# EAGLE library part CART_CIRO (library msx-con)
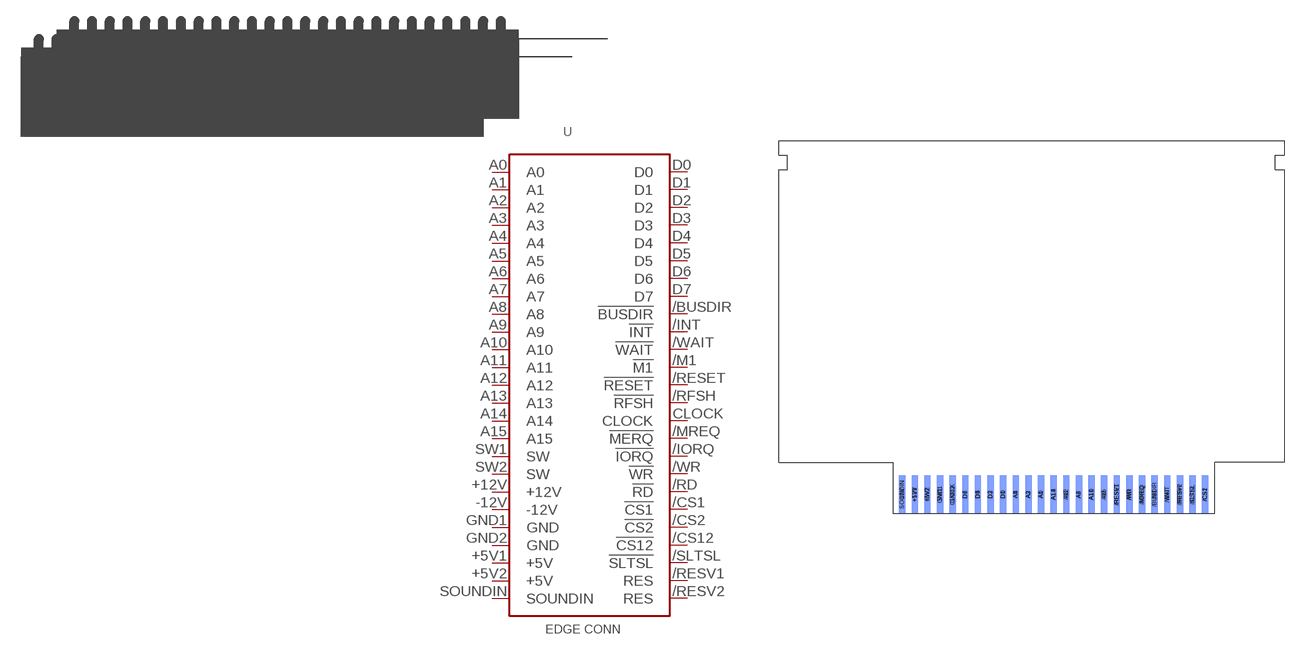
[diagram p3: symbol with the pads of CART-CIRO; footprint CART-CIRO]

Designator prefix -

## CART_CIRO  [CART-CIRO]
+5V1  +5V  sup
+5V2  +5V  sup
+12V  +12V  sup
-12V  -12V  sup
/BUSDIR  !BUSDIR  in
/CS1  !CS1  out
/CS2  !CS2  out
/CS12  !CS12  out
/INT  !INT  oc
/IORQ  !IORQ  out
/M1  !M1  out
/MREQ  !MERQ  out
/RD  !RD  out
/RESET  !RESET  out
/RESV1  RES  nc
/RESV2  RES  nc
/RFSH  !RFSH  out
/SLTSL  !SLTSL  out
/WAIT  !WAIT  oc
/WR  !WR  out
A0  A0  out
A1  A1  out
A2  A2  out
A3  A3  out
A4  A4  out
A5  A5  out
A6  A6  out
A7  A7  out
A8  A8  out
A9  A9  out
A10  A10  out
A11  A11  out
A12  A12  out
A13  A13  out
A14  A14  out
A15  A15  out
CLOCK  CLOCK  out
D0  D0
D1  D1
D2  D2
D3  D3
D4  D4
D5  D5
D6  D6
D7  D7
GND1  GND  sup
GND2  GND  sup
SOUNDIN  SOUNDIN  pas
SW1  SW  pas
SW2  SW  pas

## Footprint CART-CIRO (pad centres in mm)
smd 1.27 x 7.62 bottom: +5V1 -21.59,-41.91; +5V2 -19.05,-41.91; /CS1 36.83,-41.91; /CS12 34.29,-41.91; /IORQ 24.13,-41.91; /M1 26.67,-41.91; /RESET 19.05,-41.91; /RESV2 31.75,-41.91; /WAIT 29.21,-41.91; /WR 21.59,-41.91; A1 3.81,-41.91; A3 1.27,-41.91; A5 -1.27,-41.91; A7 11.43,-41.91; A9 16.51,-41.91; A11 13.97,-41.91; A12 8.89,-41.91; A14 6.35,-41.91; D1 -3.81,-41.91; D3 -6.35,-41.91; D5 -8.89,-41.91; D7 -11.43,-41.91; GND1 -16.51,-41.91; GND2 -13.97,-41.91; SOUNDIN -24.13,-41.91
smd 1.27 x 7.62: +12V -21.59,-41.91; -12V -24.13,-41.91; /BUSDIR 26.67,-41.91; /CS2 36.83,-41.91; /INT 29.21,-41.91; /MREQ 24.13,-41.91; /RD 21.59,-41.91; /RESV1 19.05,-41.91; /RFSH 31.75,-41.91; /SLTSL 34.29,-41.91; A0 3.81,-41.91; A2 1.27,-41.91; A4 -1.27,-41.91; A6 11.43,-41.91; A8 8.89,-41.91; A10 13.97,-41.91; A13 6.35,-41.91; A15 16.51,-41.91; CLOCK -13.97,-41.91; D0 -3.81,-41.91; D2 -6.35,-41.91; D4 -8.89,-41.91; D6 -11.43,-41.91; SW1 -16.51,-41.91; SW2 -19.05,-41.91